# Altium footprint library ISP_JTAG.PcbLib: 19 footprints (part 1 of 2)
Each footprint in its own frame and in the unit in brackets; x right, y up, seen from the top. Pads: shape width x height; smd on the part's side, far side on the other; paste and mask are expansions set on the pad; w line width, h text height; cw(c..) or ccw(c..) is an arc to the next point about the centre after c.
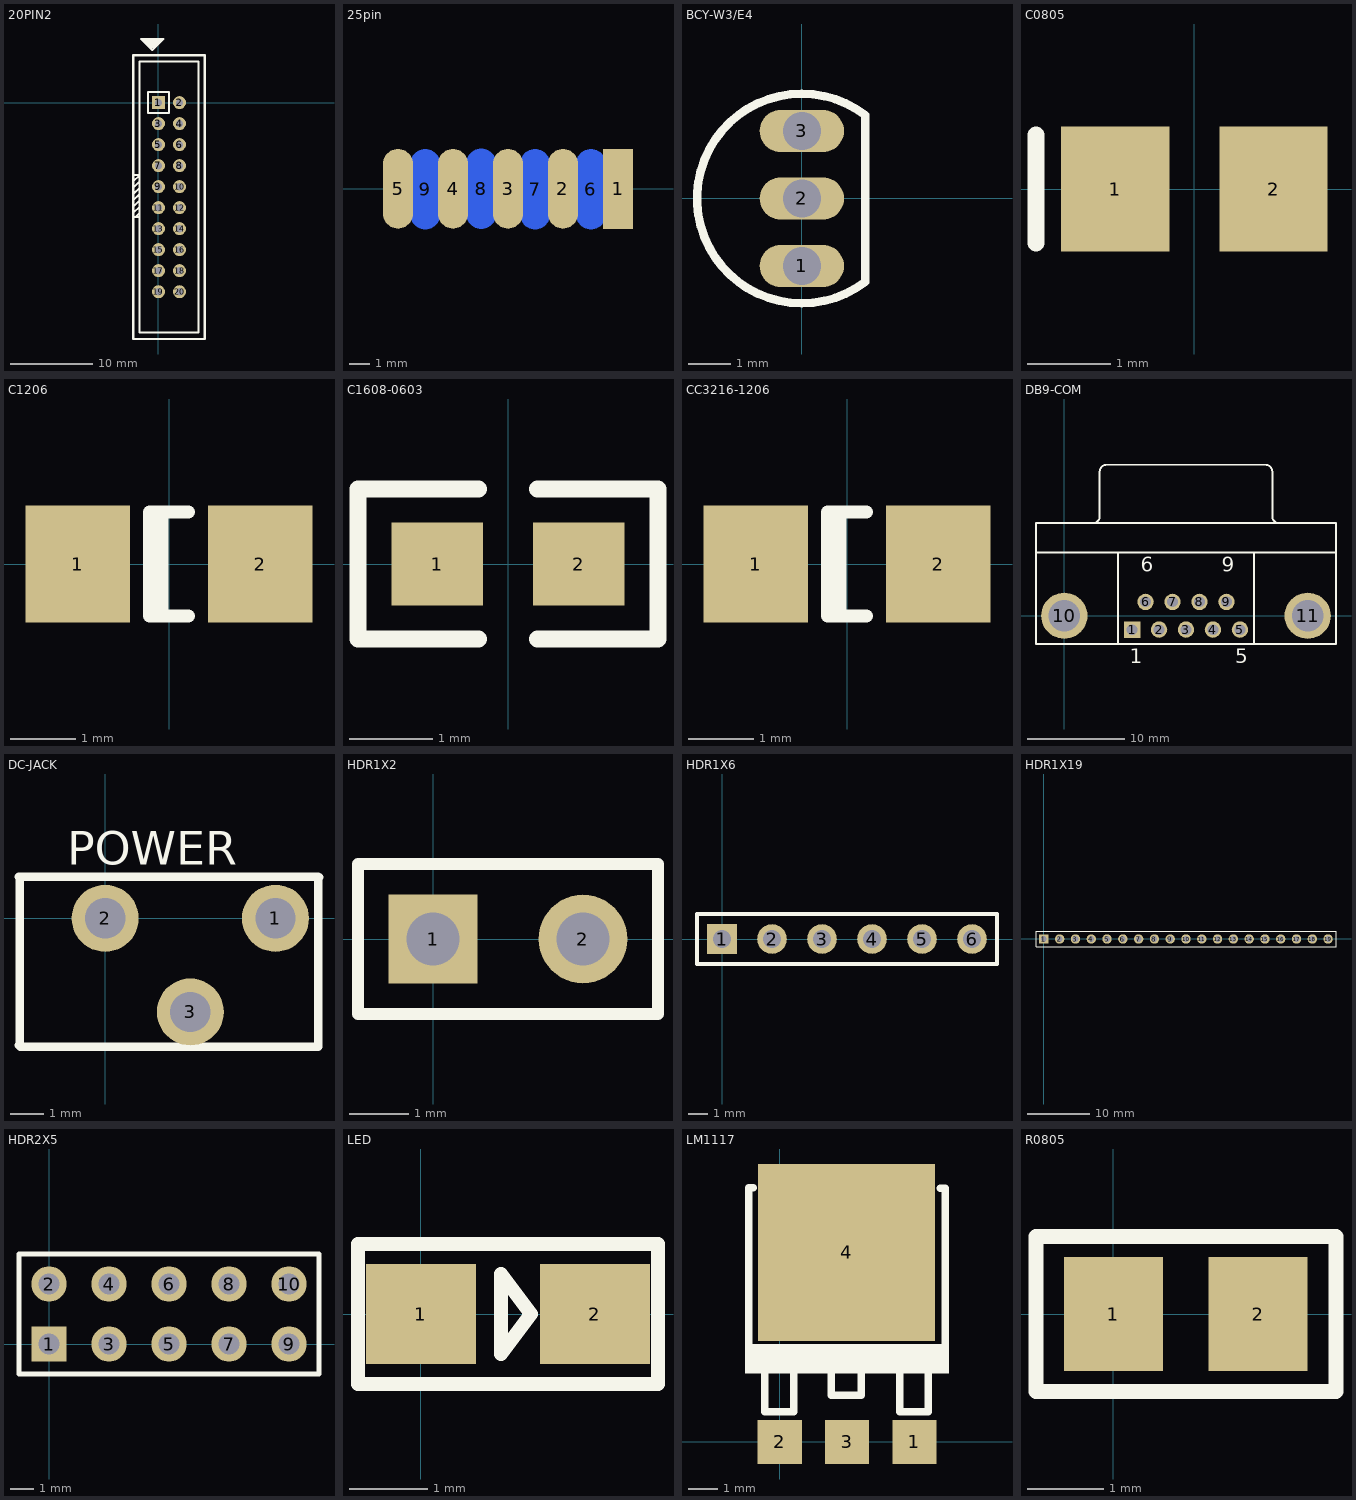
[diagram p0: the footprints below, top view; thin cyan lines are the x and y axes]

## 20PIN2 [mm] "Connector; Header; 10x2 Position"
pads (20):
  rect 1.575x1.575 hole 0.889: 1(0,0)
  round 1.575 hole 0.889: 2(2.54,0) 3(0,-2.54) 4(2.54,-2.54) 5(0,-5.08) 6(2.54,-5.08) 7(0,-7.62) 8(2.54,-7.62) 9(0,-10.16) 10(2.54,-10.16) 11(0,-12.7) 12(2.54,-12.7) 13(0,-15.24) 14(2.54,-15.24) 15(0,-17.78) 16(2.54,-17.78) 17(0,-20.32) 18(2.54,-20.32) 19(0,-22.86) 20(2.54,-22.86)
Top Overlay:
  lines w0.254: -3.048,-13.335 -2.286,-12.573 ; -3.048,-12.573 -2.286,-11.811 ; -3.048,-11.811 -2.286,-11.049 ; -3.048,-11.049 -2.286,-10.287 ; -3.048,-10.287 -2.286,-9.525 ; -3.048,-9.525 -2.286,-8.763 -3.048,-8.763 ; -2.286,-13.843 -3.048,-13.843 -2.794,-13.843 -2.286,-13.335 ; -1.582,7.275 -1.58,7.277 0.17,7.277 ; -1.392,7.065 -1.379,7.053 -0.054,7.053 ; -1.262,7.685 -2.082,7.685 -2.092,7.675 -2.082,7.675 -0.746,6.339 -0.742,6.339 -0.772,6.339 -0.768,6.339 0.578,7.685 -1.652,7.685 -1.739,7.498 0.391,7.498 ; -1.071,6.834 -0.273,6.834 ; -0.895,6.648 -0.459,6.648 ; -3.048,-28.575 5.588,-28.575 5.588,5.715 0,5.715 -3.048,5.715 -3.048,-28.575 ; -2.286,-27.813 4.826,-27.813 4.826,4.953 -2.286,4.953 -2.286,-27.813 ; -1.27,-1.27 -1.27,1.27 1.27,1.27 1.27,-1.27 -1.27,-1.27

## 25pin [mm]
height 12.93
pads (9):
  rect 1.5x4 smd: 1(33,0)
  oval 1.5x4 smd: 2(30.25,0) 3(27.5,0) 4(24.75,0) 5(22,0)
  oval 1.5x4 smd far side: 6(31.648,-0.025) 7(28.854,-0.025) 8(26.162,0) 9(23.368,-0.025)

## BCY-W3/E4 [mm] "TO, Flat Index; 3 In-Line, Axial Leads; Body Dia. 4.7mm"
pads (3):
  oval 2x1 hole 0.9: 1(0,-1.6) 2(0,0) 3(0,1.6)
Top Overlay:
  lines w0.2: 1.5,-1.98 cw(c0,0) 1.5,1.98 1.5,-1.98

## C0805 [mm] "Chip Capacitor; Body 2.0 x 1.2 mm (LxW typ)"
height 1.1
pads (2):
  rect 1.3x1.5 smd: 1(-0.95,0) 2(0.95,0)
Top Overlay:
  lines w0.2: -1.9,-0.65 -1.9,0.65

## C1206 [mm] "Chip Capacitor; Body 3.2 x 1.6 mm (LxW typ)"
height 1.35
pads (2):
  rect 1.6x1.8 smd: 1(-1.4,0) 2(1.4,0)
Top Overlay:
  lines w0.2: -0.11,-0.8 -0.11,0.8 ; 0.3,-0.8 -0.3,-0.8 -0.3,0.8 0.3,0.8

## C1608-0603 [mm] "Chip Resistor; Body 1.6 x 0.8 mm (LxW typ)"
pads (2):
  rect 1.1x1 smd: 1(-0.85,0) 2(0.85,0)
Top Overlay:
  lines w0.2: -0.35,-0.9 -1.8,-0.9 -1.8,0.9 -0.35,0.9 ; 0.35,-0.9 1.8,-0.9 1.8,0.9 0.35,0.9

## CC3216-1206 [mm] "Chip Capacitor; Body 3.2 x 1.6 mm (LxW typ)"
height 1.35
pads (2):
  rect 1.6x1.8 smd: 1(-1.4,0) 2(1.4,0)
Top Overlay:
  lines w0.2: -0.11,-0.8 -0.11,0.8 ; 0.3,-0.8 -0.3,-0.8 -0.3,0.8 0.3,0.8

## DB9-COM [mm]
height 12.93
pads (11):
  rect 1.69x1.69 hole 1.09: 1(6.955,-1.42)
  round 1.69 hole 1.09: 2(9.725,-1.42) 3(12.495,-1.42) 4(15.265,-1.42) 5(18.035,-1.42) 6(8.34,1.42) 7(11.11,1.42) 8(13.88,1.42) 9(16.65,1.42)
  round 4.76 hole 3.26: 10(0,0) 11(24.99,0)
Top Overlay:
  lines w0.2: -2.905,6.5 27.895,6.5 ; 2.935,9.505 ccw(c2.935,10.2) 3.63,10.2 3.63,14.8 ; 3.635,14.805 cw(c4.33,14.805) 4.33,15.5 20.66,15.5 cw(c20.66,14.805) 21.355,14.805 ; 5.495,-2.9 5.495,6.5 ; 19.495,-2.9 19.495,6.5 ; 21.36,14.8 21.36,10.2 ccw(c22.055,10.2) 22.055,9.505 ; -2.905,-2.9 27.895,-2.9 27.895,9.5 -2.905,9.5 -2.905,-2.9
  text "6" at 7.84,4.525 h1.5
  text "9" at 16.15,4.525 h1.5
  text "5" at 17.535,-4.875 h1.5
  text "1" at 6.705,-4.875 h1.5

## DC-JACK [mm]
height 12.93
pads (3):
  round 2 hole 1.2: 1(5.08,0) 2(0,0) 3(2.54,-2.794)
Top Overlay:
  lines w0.254: -2.572,-3.793 -2.538,-3.827 6.35,-3.827 6.35,1.218 6.333,1.235 -2.572,1.235 ; -2.543,1.24 -2.543,-3.788 -2.509,-3.822 ; 6.362,1.24 6.379,1.223
  text "POWER" at -1.128,1.59 h1

## HDR1X2 [mm] "Connector; Header; 2 Position"
height 12.93
pads (2):
  rect 1.5x1.5 hole 0.9: 1(0,0)
  round 1.5 hole 0.9: 2(2.54,0)
Top Overlay:
  lines w0.2: -1.27,-1.27 -1.27,1.27 3.81,1.27 3.81,-1.27 -1.27,-1.27

## HDR1X6 [mm] "Connector; Header; 6 Position"
height 12.93
pads (6):
  rect 1.5x1.5 hole 0.9: 1(0,0)
  round 1.5 hole 0.9: 2(2.54,0) 3(5.08,0) 4(7.62,0) 5(10.16,0) 6(12.7,0)
Top Overlay:
  lines w0.2: -1.27,-1.27 -1.27,1.27 13.97,1.27 13.97,-1.27 -1.27,-1.27

## HDR1X19 [mm] "Connector; Header; 19 Position"
height 12.93
pads (19):
  rect 1.5x1.5 hole 0.9: 1(0,0)
  round 1.5 hole 0.9: 2(2.54,0) 3(5.08,0) 4(7.62,0) 5(10.16,0) 6(12.7,0) 7(15.24,0) 8(17.78,0) 9(20.32,0) 10(22.86,0) 11(25.4,0) 12(27.94,0) 13(30.48,0) 14(33.02,0) 15(35.56,0) 16(38.1,0) 17(40.64,0) 18(43.18,0) 19(45.72,0)
Top Overlay:
  lines w0.2: 37.465,1.27 37.677,1.27 ; -1.27,-1.27 -1.27,1.27 0.635,1.27 46.99,1.27 46.99,-1.27 -1.27,-1.27

## HDR2X5 [mm] "Connector; Header; 5x2 Position"
height 12.93
pads (10):
  rect 1.5x1.5 hole 0.9: 1(0,0)
  round 1.5 hole 0.9: 2(0,2.54) 3(2.54,0) 4(2.54,2.54) 5(5.08,0) 6(5.08,2.54) 7(7.62,0) 8(7.62,2.54) 9(10.16,0) 10(10.16,2.54)
Top Overlay:
  lines w0.2: -1.27,-1.27 -1.27,3.81 11.43,3.81 11.43,-1.27 -1.27,-1.27

## LED [mm]
pads (2):
  rect 1.4x1.27 smd: 1(0,0) 2(2.21,0)
Top Overlay:
  lines w0.178: 3.011,0.889 3.01,0.889 ; 3.01,0.889 -0.8,0.889 -0.8,0 -0.8,-0.889 3.01,-0.889 3.01,0.889 ; 1.016,-0.508 1.397,0 1.016,0.508 1.016,-0.508

## LM1117 [mm]
height 12.93
pads (4):
  rect 1.5x1.5 smd: 1(4.572,0) 2(0,0) 3(2.286,0)
  rect 6x6 smd: 4(2.272,6.425)
Top Overlay:
  rectangle: -1.178,2.325 5.747,3.325
  lines w0.254: -1.053,3.15 -1.053,8.625 ; -1.028,8.625 -0.903,8.625 ; -0.503,2.275 -0.503,1.025 0.472,1.025 0.472,2.3 ; 1.747,2.275 1.747,1.575 2.772,1.575 2.772,2.375 ; 4.072,2.275 4.072,1.025 5.047,1.025 5.047,2.3 ; 5.447,8.6 5.597,8.6 ; 5.622,3.175 5.622,8.6

## R0805 [mm]
height 12.93
pads (2):
  rect 1.3x1.5 smd: 1(0,0) 2(1.9,0)
Top Overlay:
  lines w0.2: -1.016,-1.016 -1.016,1.016 2.921,1.016 2.921,-1.016 -1.016,-1.016